# Altium footprint library 摄像头转接板 PCB封装库.PcbLib: 2 footprints
Each footprint in its own frame and in the unit in brackets; x right, y up, seen from the top. Pads: shape width x height; smd on the part's side, far side on the other; paste and mask are expansions set on the pad; w line width, h text height; cw(c..) or ccw(c..) is an arc to the next point about the centre after c.
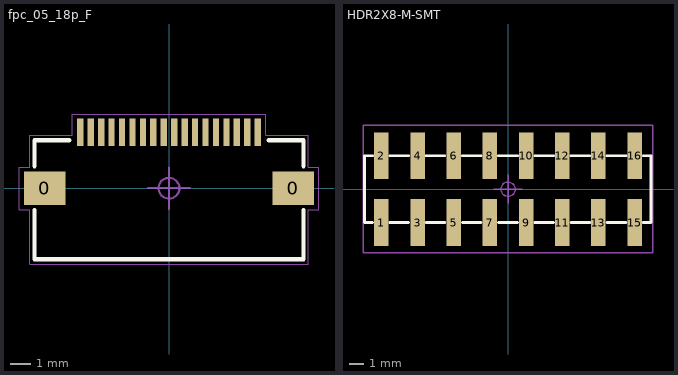
[diagram p0: the footprints below, top view; thin cyan lines are the x and y axes]

## fpc_05_18p_F [mm] "0.5mm间距 18P FPC 翻盖 软排线座"
pads (20):
  rect 2x1.6 smd: 0(-5.95,0) 0(5.95,0)
  rect 0.3x1.3 smd: 1(-4.25,2.68) 2(-3.75,2.68) 3(-3.25,2.68) 4(-2.75,2.68) 5(-2.25,2.68) 6(-1.75,2.68) 7(-1.25,2.68) 8(-0.75,2.68) 9(-0.25,2.68) 10(0.25,2.68) 11(0.75,2.68) 12(1.25,2.68) 13(1.75,2.68) 14(2.25,2.68) 15(2.75,2.68) 16(3.25,2.68) 17(3.75,2.68) 18(4.25,2.68)
Top Overlay:
  lines w0.203: -6.45,-1.05 -6.45,-3.4 6.45,-3.4 6.45,-1.05 ; -6.45,1.05 -6.45,2.3 -4.775,2.3 ; 4.775,2.3 6.45,2.3 6.45,1.05
Top Designator:
  text ".Designator" at -2.251,-0.264 h1
Top Component Outline:
  lines w0.05: -7.188,-1.041 -6.68,-1.041 -6.68,-3.632 6.68,-3.632 6.68,-1.041 7.188,-1.041 7.188,1.016 6.68,1.016 6.68,2.54 4.648,2.54 4.648,3.556 -4.648,3.556 -4.648,2.54 -6.68,2.54 -6.68,1.016 -7.188,1.016 -7.188,-1.041
Top Component Center:
  circle w0.1: c0,0 r0.5
  lines w0.1: -1,0 1,0 ; 0,-1 0,1
3D body "ffc_fpc_affc25-18-050-shb-t.stp": height 2.2, standoff -0.05, extent -6.55,-3.498 6.55,3.001

## HDR2X8-M-SMT [mm] "2x8pin, 2.54mm间距, SMT, 直排针"
pads (16):
  rect 1.02x3.3 smd: 1(-8.89,-2.35) 2(-8.89,2.35) 3(-6.35,-2.35) 4(-6.35,2.35) 5(-3.81,-2.35) 6(-3.81,2.35) 7(-1.27,-2.35) 8(-1.27,2.35) 9(1.27,-2.35) 10(1.27,2.35) 11(3.81,-2.35) 12(3.81,2.35) 13(6.35,-2.35) 14(6.35,2.35) 15(8.89,-2.35) 16(8.89,2.35)
Top Overlay:
  lines w0.2: -10.083,2.35 -9.525,2.35 ; -10.083,2.35 -10.083,-2.35 -9.524,-2.35 ; -8.305,2.35 -6.985,2.35 ; -8.305,-2.35 -6.984,-2.35 ; -5.765,2.35 -4.445,2.35 ; -5.765,-2.35 -4.444,-2.35 ; -3.2,2.35 -1.905,2.35 ; -3.2,-2.35 -1.904,-2.35 ; -0.66,2.35 0.661,2.35 ; -0.66,-2.35 0.661,-2.35 ; 1.88,2.35 3.201,2.35 ; 1.88,-2.35 3.201,-2.35 ; 4.42,2.35 5.741,2.35 ; 4.42,-2.35 5.741,-2.35 ; 6.96,2.35 8.281,2.35 ; 6.96,-2.35 8.281,-2.35 ; 9.5,2.35 10.059,2.35 ; 9.5,-2.35 10.059,-2.35 10.059,2.35
Top Designator:
  text ".Designator" at -2.251,-0.214 h1
Top Component Outline:
  lines w0.1: -10.16,-4.475 -10.16,4.5 10.16,4.5 10.16,-4.475 -10.16,-4.475
Top Component Center:
  circle w0.1: c0,0 r0.5
  lines w0.1: -1,0 1,0 ; 0,-1 0,1
3D body "61031621121.stp": height 9.67, standoff 0.07, extent -10.16,-3.75 10.16,3.75